# EAGLE library part 87264-10 (library untitled)
RECEPTACAL
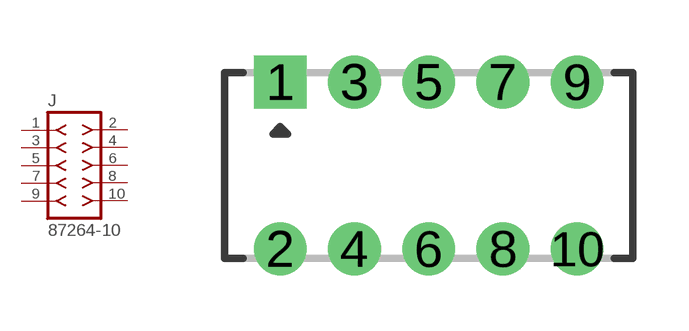
[diagram p206: symbol with the pads of 87264-10; footprint 87264-10]

Designator prefix J

## 87264-10  [87264-10]
1  1  pas
2  2  pas
3  3  pas
4  4  pas
5  5  pas
6  6  pas
7  7  pas
8  8  pas
9  9  pas
10  10  pas

## Footprint 87264-10 (pad centres in mm)
RECEPTACAL Dual Row, Side Entry
drill 0.914 square: 1 -4,2.25
drill 0.914 round: 2 -4,-2.25; 3 -2,2.25; 4 -2,-2.25; 5 0,2.25; 6 0,-2.25; 7 2,2.25; 8 2,-2.25; 9 4,2.25; 10 4,-2.25